# Altium footprint library CSTCE_V13C.PcbLib: 1 footprints
Each footprint in its own frame and in the unit in brackets; x right, y up, seen from the top. Pads: shape width x height; smd on the part's side, far side on the other; paste and mask are expansions set on the pad; w line width, h text height; cw(c..) or ccw(c..) is an arc to the next point about the centre after c.
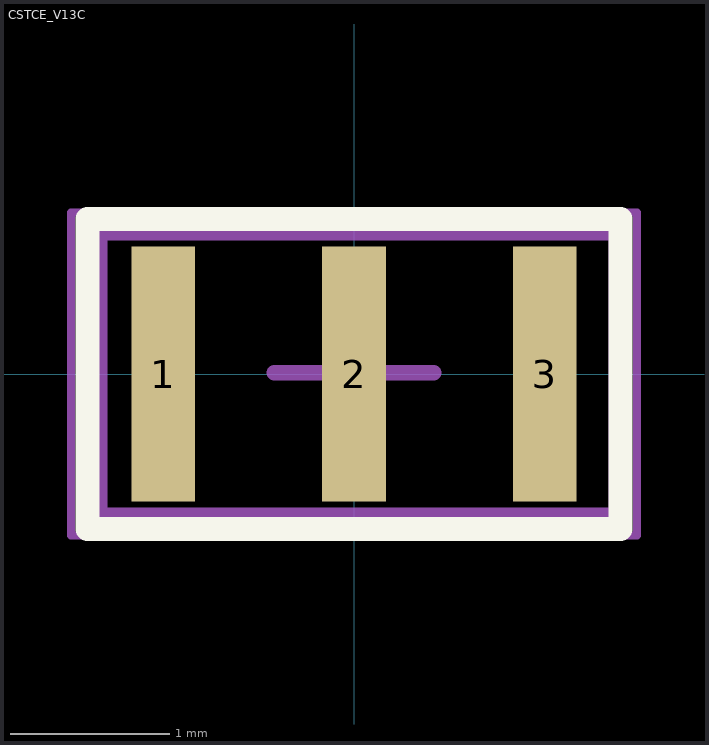
[diagram p0: the footprint, top view; thin cyan lines are the x and y axes]

## CSTCE_V13C [mm]
height 1.3
pads (3):
  rect 0.4x1.6 smd: 1(-1.2,0) 2(0,0) 3(1.2,0)
Top Overlay:
  lines w0.15: -1.675,-0.975 1.675,-0.975 1.675,0.975 -1.675,0.975 -1.675,-0.975
Top Assembly:
  lines w0.1: -1.6,-0.889 -1.6,0.889 1.651,0.889 1.651,-0.889 -1.6,-0.889
Top Courtyard:
  lines w0.05: -1.778,-1.016 -1.778,1.016 1.778,1.016 1.778,-1.016 -1.778,-1.016
  lines w0.1: -0.501,0.008 0.499,0.008 ; -0.001,-0.492 -0.001,0.508
3D body "User Library-CSTCE.step": height 0.7, standoff 0, extent -1.6,-0.65 1.6,0.65